# EAGLE library part W25Q16DWZPIG (library DLP_TI)
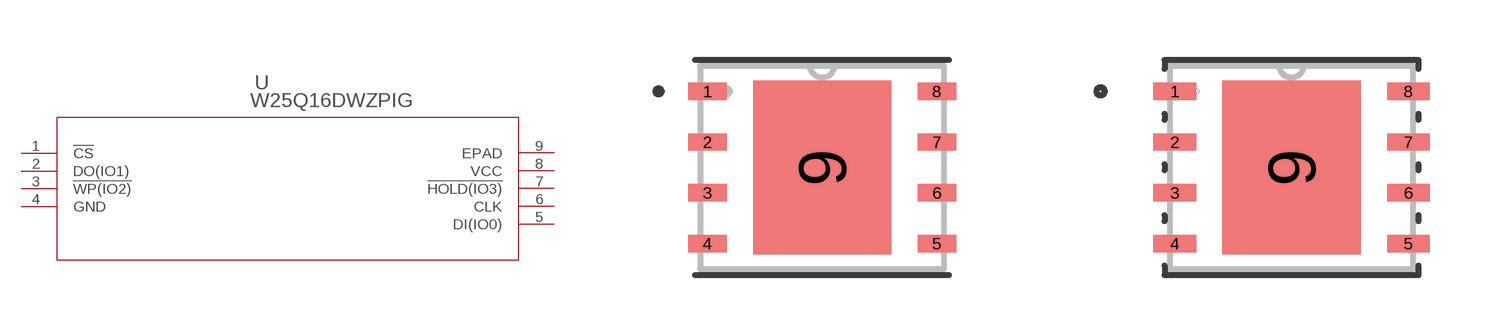
[diagram p4: symbol with the pads of WIN_ZP-8_WIN; footprints WIN_ZP-8_WIN, WIN_ZP-8_WIN-M]

Designator prefix U

## W25Q16DWZPIG (COPYRIGHT: Copyright (C) 2021 Ultra Librarian. All rights reserved.; MANUFACTURER_PART_NUMBER: W25Q16DWZPIG; MFR_NAME: Winbond)  [WIN_ZP-8_WIN]
1  !CS  in
2  DO(IO1)
3  !WP(IO2)
4  GND  pwr
5  DI(IO0)
6  CLK  in
7  !HOLD(IO3)
8  VCC  pwr
9  EPAD  pas

## W25Q16DWZPIGWIN_ZP-8_WIN-M (COPYRIGHT: Copyright (C) 2021 Ultra Librarian. All rights reserved.; MANUFACTURER_PART_NUMBER: W25Q16DWZPIG; MFR_NAME: Winbond)  [WIN_ZP-8_WIN-M]
Pads as for WIN_ZP-8_WIN

## W25Q16DWZPIGWIN_ZP-8_WIN-L (COPYRIGHT: Copyright (C) 2021 Ultra Librarian. All rights reserved.; MANUFACTURER_PART_NUMBER: W25Q16DWZPIG; MFR_NAME: Winbond)  [WIN_ZP-8_WIN-L]
Pads as for WIN_ZP-8_WIN

## Footprint WIN_ZP-8_WIN (pad centres in mm)
smd 0.965 x 0.432: 1 -2.87,1.905; 2 -2.87,0.635; 3 -2.87,-0.635; 4 -2.87,-1.905; 5 2.87,-1.905; 6 2.87,-0.635; 7 2.87,0.635; 8 2.87,1.905
smd 3.454 x 4.343: 9 0,0

## Footprint WIN_ZP-8_WIN-M (pad centres in mm)
smd 1.067 x 0.432: 1 -2.921,1.905; 2 -2.921,0.635; 3 -2.921,-0.635; 4 -2.921,-1.905; 5 2.921,-1.905; 6 2.921,-0.635; 7 2.921,0.635; 8 2.921,1.905
smd 3.454 x 4.343: 9 0,0

## Footprint WIN_ZP-8_WIN-L (pad centres in mm)
smd 0.864 x 0.432: 1 -2.819,1.905; 2 -2.819,0.635; 3 -2.819,-0.635; 4 -2.819,-1.905; 5 2.819,-1.905; 6 2.819,-0.635; 7 2.819,0.635; 8 2.819,1.905
smd 3.454 x 4.343: 9 0,0